# EAGLE library part H1-H5-INBOARD-CSK-BUS-CONN (library gwu_mpnl_ucat_v10)
H1/H5/Inboard Cubesat Kit Bus Connector 1 x Samtec ESQ-126-39-G-D Connectors 104 pins per Cubesat Kit Bus Spec A5 Place H1/H5 (Inboard) conn. pin #1 at 3.275"x0.550" exactly. Pins 1-52
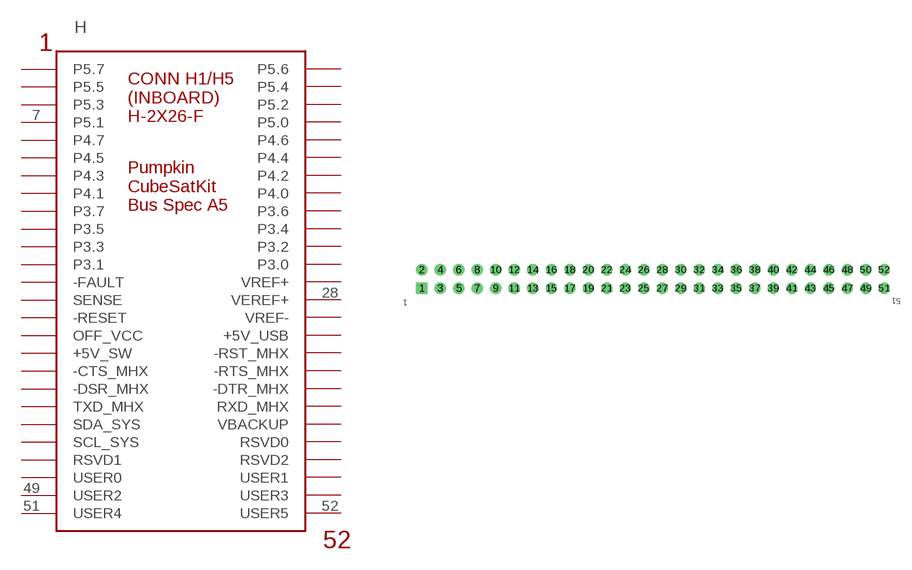
[diagram p9: symbol with the pads of CONN-2X26X0.1-HDR; footprint CONN-2X26X0.1-HDR]

Designator prefix H

## H1-H5-INBOARD-CSK-BUS-CONN (MF: SAMTEC; MPN: ESQ-126-39-G-D)  [CONN-2X26X0.1-HDR]
1  P5.7
2  P5.6
3  P5.5
4  P5.4
5  P5.3
6  P5.2
7  P5.1
8  P5.0
9  P4.7
10  P4.6
11  P4.5
12  P4.4
13  P4.3
14  P4.2
15  P4.1
16  P4.0
17  P3.7
18  P3.6
19  P3.5
20  P3.4
21  P3.3
22  P3.2
23  P3.1
24  P3.0
25  -FAULT
26  VREF+
27  SENSE
28  VEREF+
29  -RESET
30  VREF-
31  OFF_VCC
32  +5V_USB
33  +5V_SW
34  -RST_MHX
35  -CTS_MHX
36  -RTS_MHX
37  -DSR_MHX
38  -DTR_MHX
39  TXD_MHX
40  RXD_MHX
41  SDA_SYS
42  VBACKUP
43  SCL_SYS
44  RSVD0
45  RSVD1
46  RSVD2
47  USER0
48  USER1
49  USER2
50  USER3
51  USER4
52  USER5

## Footprint CONN-2X26X0.1-HDR (pad centres in mm)
drill 1.016 pad 1.524 square: 1 0,0
drill 1.016 pad 1.524: 2 0,2.54; 3 2.54,0; 4 2.54,2.54; 5 5.08,0; 6 5.08,2.54; 7 7.62,0; 8 7.62,2.54; 9 10.16,0; 10 10.16,2.54; 11 12.7,0; 12 12.7,2.54; 13 15.24,0; 14 15.24,2.54; 15 17.78,0; 16 17.78,2.54; 17 20.32,0; 18 20.32,2.54; 19 22.86,0; 20 22.86,2.54; 21 25.4,0; 22 25.4,2.54; 23 27.94,0; 24 27.94,2.54; 25 30.48,0; 26 30.48,2.54; 27 33.02,0; 28 33.02,2.54; 29 35.56,0; 30 35.56,2.54; 31 38.1,0; 32 38.1,2.54; 33 40.64,0; 34 40.64,2.54; 35 43.18,0; 36 43.18,2.54; 37 45.72,0; 38 45.72,2.54; 39 48.26,0; 40 48.26,2.54; 41 50.8,0; 42 50.8,2.54; 43 53.34,0; 44 53.34,2.54; 45 55.88,0; 46 55.88,2.54; 47 58.42,0; 48 58.42,2.54; 49 60.96,0; 50 60.96,2.54; 51 63.5,0; 52 63.5,2.54